# EAGLE library part RCM2200 (library rcm2200)
RabbitCore RCM2200 C-Programmable Module with Ethernet
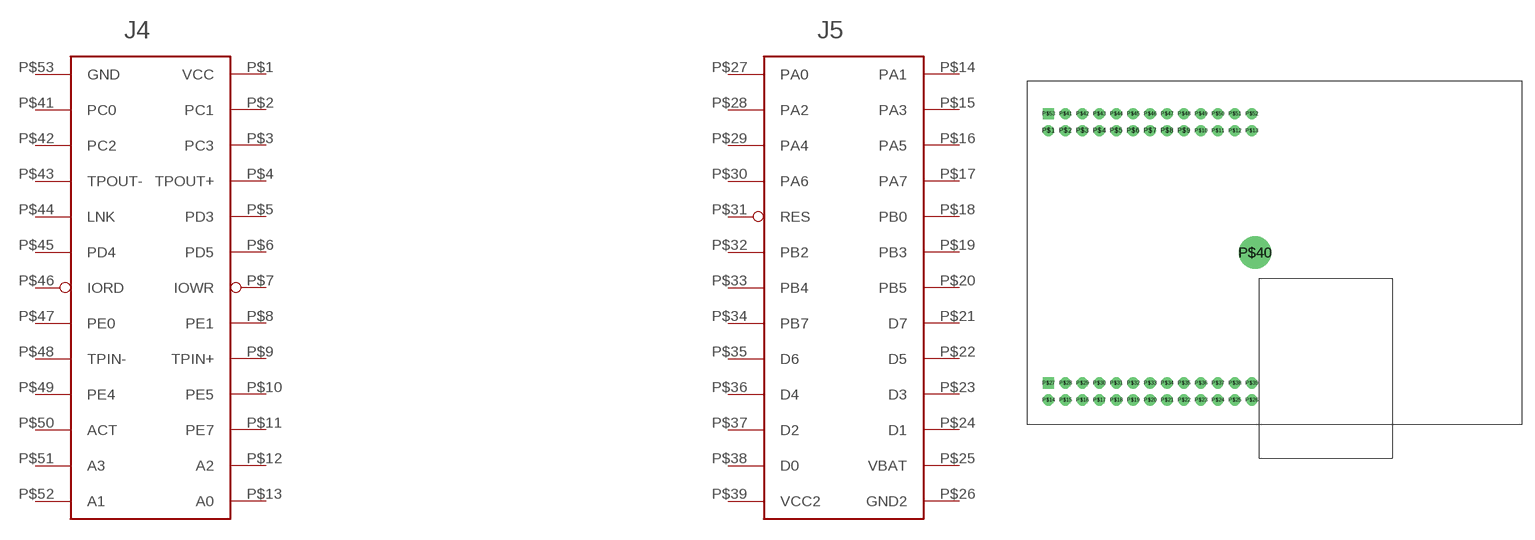
[diagram p0: symbol with the pads of RCM2200; footprint RCM2200]

Designator prefix -

## RCM2200  [RCM2200]
P$1  VCC  pwr
P$2  PC1  in
P$3  PC3  in
P$4  TPOUT+
P$5  PD3
P$6  PD5
P$7  IOWR  out
P$8  PE1
P$9  TPIN+
P$10  PE5
P$11  PE7
P$12  A2  out
P$13  A0  out
P$14  PA1
P$15  PA3
P$16  PA5
P$17  PA7
P$18  PB0  in
P$19  PB3  in
P$20  PB5  in
P$21  D7
P$22  D5
P$23  D3
P$24  D1
P$25  VBAT  pwr
P$26  GND2  pwr
P$27  PA0
P$28  PA2
P$29  PA4
P$30  PA6
P$31  RES
P$32  PB2  in
P$33  PB4  in
P$34  PB7  out
P$35  D6
P$36  D4
P$37  D2
P$38  D0
P$39  VCC2  pwr
P$41  PC0  out
P$42  PC2  out
P$43  TPOUT-
P$44  LNK  out
P$45  PD4
P$46  IORD  out
P$47  PE0
P$48  TPIN-
P$49  PE4
P$50  ACT  out
P$51  A3  out
P$52  A1  out
P$53  GND  pwr

## Footprint RCM2200 (pad centres in mm)
drill 0.813 round: P$1 -24.4,14.4; P$2 -22.4,14.4; P$3 -20.4,14.4; P$4 -18.4,14.4; P$5 -16.4,14.4; P$6 -14.4,14.4; P$7 -12.4,14.4; P$8 -10.4,14.4; P$9 -8.4,14.4; P$10 -6.4,14.4; P$11 -4.4,14.4; P$12 -2.4,14.4; P$13 -0.4,14.4; P$14 -24.4,-17.4; P$15 -22.4,-17.4; P$16 -20.4,-17.4; P$17 -18.4,-17.4; P$18 -16.4,-17.4; P$19 -14.4,-17.4; P$20 -12.4,-17.4; P$21 -10.4,-17.4; P$22 -8.4,-17.4; P$23 -6.4,-17.4; P$24 -4.4,-17.4; P$25 -2.4,-17.4; P$26 -0.4,-17.4; P$28 -22.4,-15.4; P$29 -20.4,-15.4; P$30 -18.4,-15.4; P$31 -16.4,-15.4; P$32 -14.4,-15.4; P$33 -12.4,-15.4; P$34 -10.4,-15.4; P$35 -8.4,-15.4; P$36 -6.4,-15.4; P$37 -4.4,-15.4; P$38 -2.4,-15.4; P$39 -0.4,-15.4; P$41 -22.4,16.4; P$42 -20.4,16.4; P$43 -18.4,16.4; P$44 -16.4,16.4; P$45 -14.4,16.4; P$46 -12.4,16.4; P$47 -10.4,16.4; P$48 -8.4,16.4; P$49 -6.4,16.4; P$50 -4.4,16.4; P$51 -2.4,16.4; P$52 -0.4,16.4
drill 0.813 square: P$27 -24.4,-15.4; P$53 -24.4,16.4
drill 2.54 pad 3.81 round: P$40 0,0